# Altium schematic symbol library OptoAndDigitalIsolators.SchLib: 2 symbols
Pins are listed as number, name and electrical type; pins without a type are passive.

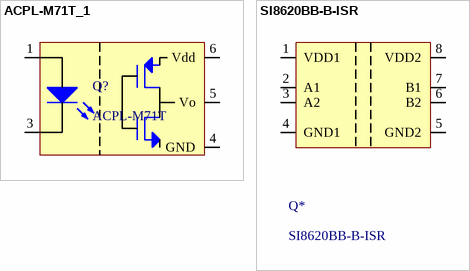
[diagram p0: symbols ACPL-M71T_1 to SI8620BB-B-ISR]

## ACPL-M71T_1
designator Q?, comment ACPL-M71T
OPTOISO 4KV PUSH PULL 5SOIC; Supplier 1: Digi-Key; Supplier Part Number 1: 516-4134-1-ND; Package / Case: 5-SOIC; Mounted: Yes
footprint SOIC-6, 5 Leads (6-SOIC (0.173", 4.40mm Width), 5 Leads, JEDEC MO-155 Package)
pins: 1 Anode, 3 Cathode, 4 GND, 5 Vo, 6 Vdd

## SI8620BB-B-ISR
designator Q*
General Purpose Digital Isolator 2500Vrms 2 Channel 150Mbps 35kV/µs CMTI 8-SOIC (0.154", 3.90mm Width); Supplier Part Number 1: 336-4209-1-ND
footprint SOIC-8 (8-Lead Plastic Small Outline, 0.15in pitch,  LTC DWG # 05-08-1610 Rev G)
pins: 1 VDD1, 2 A1, 3 A2, 4 GND1, 5 GND2, 6 B2, 7 B1, 8 VDD2